# Altium integrated library NEOS_CAN.IntLib: 13 symbols
Pins are listed as number, name and electrical type; pins without a type are passive.

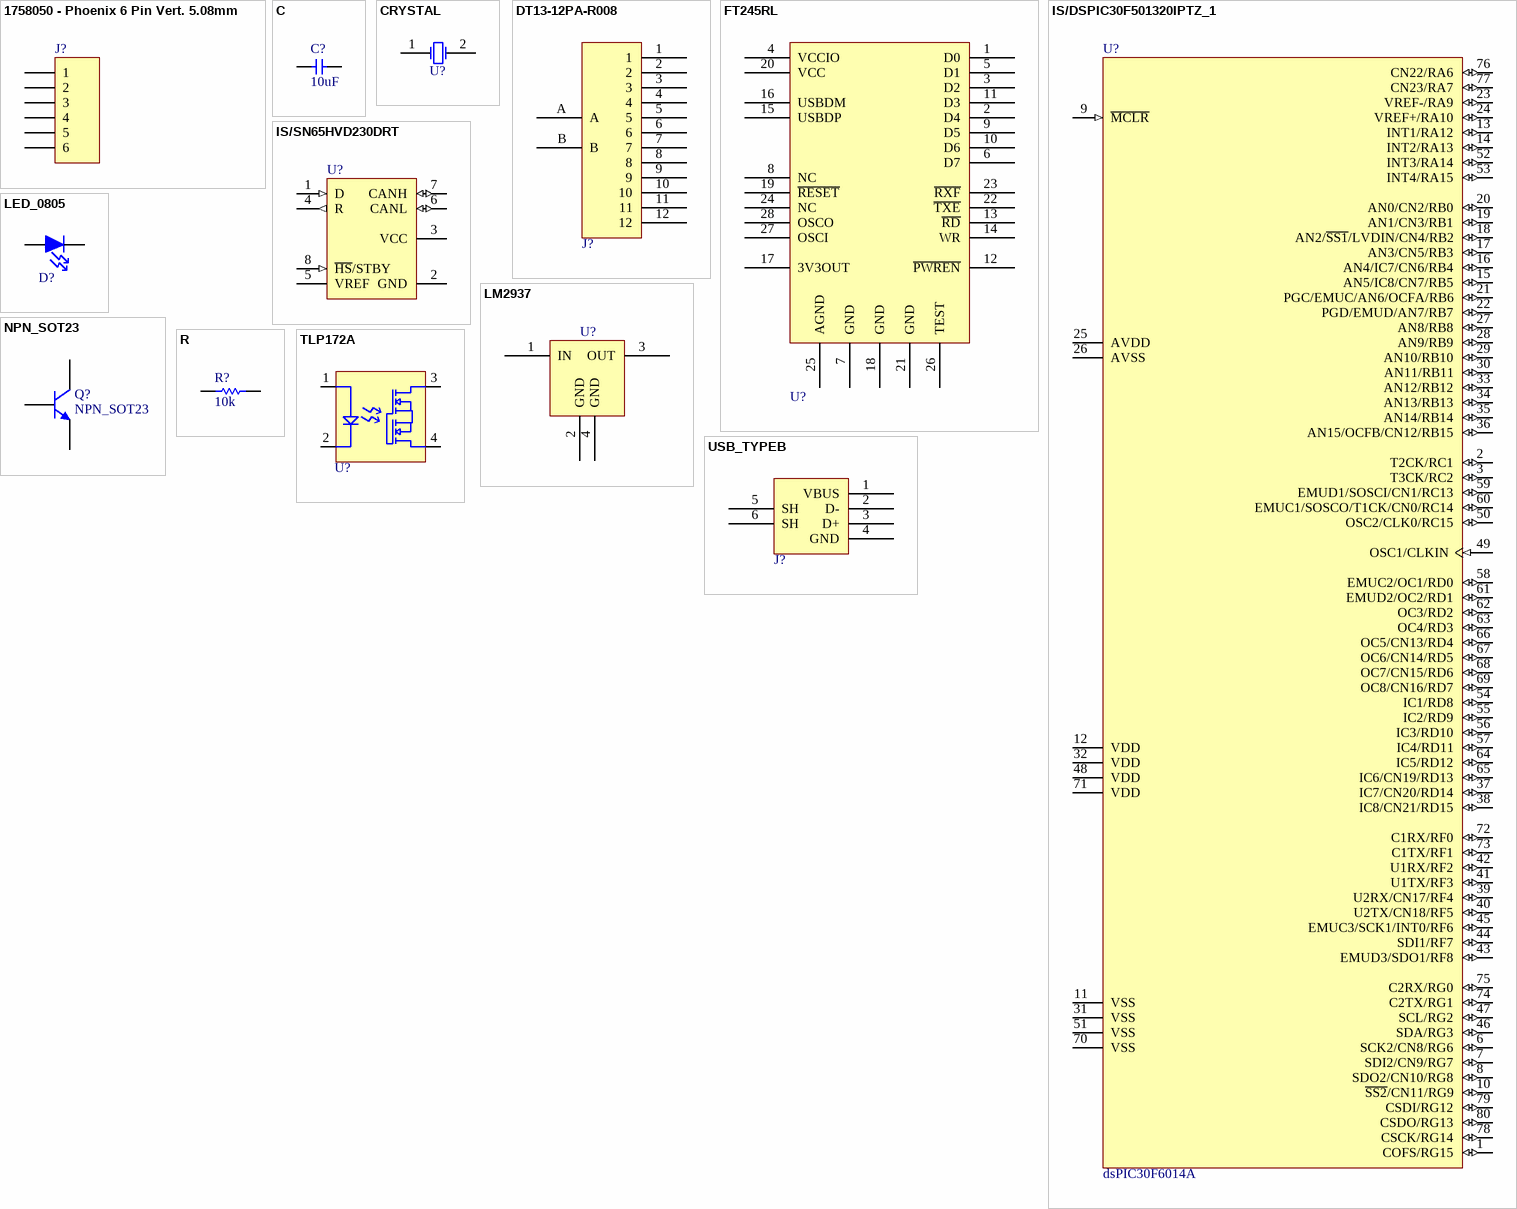
[diagram p0: symbols 1758050 - Phoenix 6 Pin Vert. 5.08mm to USB_TYPEB]

## 1758050 - Phoenix 6 Pin Vert. 5.08mm
designator J?, comment CONN HEADER VERT 6POS 5.08MM  (value not drawn)
Manufacturer: Phoenix Contact; Manufacturer Part Number: 1758050; Source Part Number: 277-1132-ND; Source: Digikey; ROHS Certificate: *; Value: CONN HEADER VERT 6POS 5.08MM
signal-integrity model Connector
footprint JCPM5086VE0Z (ASI term strip header 6P 5.08mm Vert)
pins: 1, 2, 3, 4, 5, 6

## C
designator C?  value 10uF  (hidden comment: C)
Generic C; Manufacturer: Murata Electronics North America; Source: DIGIKEY; ROHS Certificate: ROHS-MURATA-CHIP-CAPS.pdf
footprint 0603 (0603 Generic)
footprint 0805 (0805 Generic)
footprint 1206 (1206 Generic)
pins: 1, 2

## CRYSTAL
designator U?  (value not drawn)
Manufacturer: n/a; Manufacturer Part Number: n/a; Source: Digikey; Source Part Number: n/a; ROHS Certificate: n/a; Value: n/a
footprint HCM49 (Surface Mount HCM49 Crystal)
pins: 1 OSC1, 2 OSC2

## DT13-12PA-R008
designator J?  (value not drawn)
DTM13-12PA-R008; Manufacturer: Duetsch IPD; Enclosure Part Number: EEC-325X4A; Enclosure Part Number (Amber): EEC-325X4B-E016; Manufacturer Part Number: DTM13-12PA-R008; Source: Ladd Industries; Source Part Number: DTM13-12PA-R008; Value: DTM13-12PA-R008
footprint DTM13-12PA-R008 (Connector and PCB Dimensions 12 PIN DTM Assembly for EEC-325X4 enclosure)
3D model dtm13-12p (PCB3D Model)
pins: 1, 2, 3, 4, 5, 6, 7, 8, 9, 10, 11, 12, A, B

## FT245RL
designator U?  (value not drawn)
USB Interface ICs USB TO PARALLEL FIFO 28 PIN SSOP; Manufacturer: FTDI; Source Part Number: 895-FT245RL; Manufacturer Part Number: FT245RL; Source: Mouser; ROHS Certificate: ROHS-FTDI.pdf; Value: FT245RL
footprint SOP65P780X200-28L (SOP, 28-Leads, Body 10.2x5.3mm (max), Pitch 0.65mm, IPC High Density)
pins: 1 D0, 2 D4, 3 D2, 4 VCCIO, 5 D1, 6 D7, 7 GND, 8 NC, 9 D5, 10 D6, 11 D3, 12 ~{PWREN}, 13 ~{RD}, 14 WR, 15 USBDP, 16 USBDM, 17 3V3OUT, 18 GND, 19 ~{RESET}, 20 VCC, 21 GND, 22 ~{TXE}, 23 ~{RXF}, 24 NC, 25 AGND, 26 TEST, 27 OSCI, 28 OSCO

## IS/DSPIC30F501320IPTZ_1
designator U?, comment dsPIC30F6014A
Microchip dsPIC30F5013 80-TQFP; Published: 11-Oct-2004; Publisher: Altium Limited; ComponentLink1Description: Manufacturer Link; ComponentLink1URL: http://www.microchip.com/index.asp; ComponentLink3Description: Packaging Specification
footprint TQFP-80 (QFP, Plastic, Thin; 80 Leads; Body 12 x 12 mm; Pitch 0.5 mm; Lead Form 1.0/0.1 mm)
pins: 1 COFS/RG15 (io), 2 T2CK/RC1 (io), 3 T3CK/RC2 (io), 6 SCK2/CN8/RG6 (io), 7 SDI2/CN9/RG7 (io), 8 SDO2/CN10/RG8 (io), 9 ~{MCLR} (in), 10 ~{SS2}/CN11/RG9 (io), 11 VSS (power), 12 VDD (power), 13 INT1/RA12 (io), 14 INT2/RA13 (io), 15 AN5/IC8/CN7/RB5 (io), 16 AN4/IC7/CN6/RB4 (io), 17 AN3/CN5/RB3 (io), 18 AN2/~{SS1}/LVDIN/CN4/RB2 (io), 19 AN1/CN3/RB1 (io), 20 AN0/CN2/RB0 (io), 21 PGC/EMUC/AN6/OCFA/RB6 (io), 22 PGD/EMUD/AN7/RB7 (io), 23 VREF-/RA9 (io), 24 VREF+/RA10 (io), 25 AVDD (power), 26 AVSS (power), 27 AN8/RB8 (io), 28 AN9/RB9 (io), 29 AN10/RB10 (io), 30 AN11/RB11 (io), 31 VSS (power), 32 VDD (power), 33 AN12/RB12 (io), 34 AN13/RB13 (io), 35 AN14/RB14 (io), 36 AN15/OCFB/CN12/RB15 (io), 37 IC7/CN20/RD14 (io), 38 IC8/CN21/RD15 (io), 39 U2RX/CN17/RF4 (io), 40 U2TX/CN18/RF5 (io), 41 U1TX/RF3 (io), 42 U1RX/RF2 (io), 43 EMUD3/SDO1/RF8 (io), 44 SDI1/RF7 (io), 45 EMUC3/SCK1/INT0/RF6 (io), 46 SDA/RG3 (io), 47 SCL/RG2 (io), 48 VDD (power), 49 OSC1/CLKIN (in), 50 OSC2/CLK0/RC15 (io), 51 VSS (power), 52 INT3/RA14 (io), 53 INT4/RA15 (io), 54 IC1/RD8 (io), 55 IC2/RD9 (io), 56 IC3/RD10 (io), 57 IC4/RD11 (io), 58 EMUC2/OC1/RD0 (io), 59 EMUD1/SOSCI/CN1/RC13 (io), 60 EMUC1/SOSCO/T1CK/CN0/RC14 (io), 61 EMUD2/OC2/RD1 (io), 62 OC3/RD2 (io), 63 OC4/RD3 (io), 64 IC5/RD12 (io), 65 IC6/CN19/RD13 (io), 66 OC5/CN13/RD4 (io), 67 OC6/CN14/RD5 (io), 68 OC7/CN15/RD6 (io), 69 OC8/CN16/RD7 (io), 70 VSS (power), 71 VDD (power), 72 C1RX/RF0 (io), 73 C1TX/RF1 (io), 74 C2TX/RG1 (io), 75 C2RX/RG0 (io), 76 CN22/RA6 (io), 77 CN23/RA7 (io), 78 CSCK/RG14 (io), 79 CSDI/RG12 (io), 80 CSDO/RG13 (io)

## IS/SN65HVD230DRT
designator U?
CAN Transceiver 3.3V w/standby; Published: 15-May-2002; LatestRevisionDate: 04-Mar-2005; LatestRevisionNote: Stylized 3D Model Added.; DatasheetDocument: Sep-1989; PackageDocument: Jan-1998; PackageReference: D008; Publisher: Altium Limited; ComponentLink1Description: Manufacturer Link; ComponentLink1URL: http://www.ti.com/; ComponentLink2Description: Datasheet
footprint SOIC 8 (Small Outline; 8 Leads; Body Width 3.9 mm; Pitch 1.27 mm)
pins: 1 D (in), 2 GND (power), 3 VCC (power), 4 R (out), 5 VREF, 6 CANL (io), 7 CANH (io), 8 ~{HS}/STBY (in)

## LED_0805
designator D?  (value not drawn)
DT13-2P
footprint LED_0805
pins: A, C

## LM2937
designator U?  (value not drawn)
IC REG LDO 500MA 3.3V SOT-223; Manufacturer: National Instruments; Manufacturer Part Number: LM2937IMP-3.3/NOPB; Source Part Number: LM2937IMP-3.3CT-ND; Source: Digikey; Value: IC REG LDO 500MA 3.3V SOT-223; ROHS Certificate: *
footprint SOT223 (SOT223, 4-Leads, Body 6.7x7.3mm (max), Pitch 2.30mm, IPC High Density)
pins: 1 IN, 2 GND, 3 OUT, 4 GND

## NPN_SOT23
designator Q?
footprint SOT95P245X145-3L (SOT23, 3-Leads, Body 3.1x2.6mm (max), Pitch 0.95mm, IPC High Density)
pins: 1 B, 2 E, 3 C

## R
designator R?  value 10k  (hidden comment: R)
Generic R; Manufacturer: Panasonic - ECG; Manufacturer Part Number: RC0805FR-071KL; Source Part Number: 311-1.00KCRCT-ND; Source: Digikey; ROHS Certificate: ROHS-PANASONIC.pdf
footprint 0603 (0603 Generic)
footprint 0805 (0805 Generic)
pins: 1, 2

## TLP172A
designator U?  (value not drawn)
PHOTOCOUPLER PHOTORELAY 4-SOP; Manufacturer: Toshiba; Manufacturer Part Number: TLP172A(F); Source Part Number: TLP172AF-ND; Value: TLP172AF-ND; Source: Digikey
footprint PS7241
pins: 1, 2, 3, 4

## USB_TYPEB
designator J?, comment CONN RCPT USB TYPE B R/A PCB  (value not drawn)
Manufacturer: FCI; Manufacturer Part Number: 61729-0010BLF; Source Part Number: 609-1039-ND; Source: Digikey; ROHS Certificate: ROHS-FCI_61729-0010BLF; Value: CONN RCPT USB TYPE B R/A PCB
footprint 1-1470156 (Connector; USB1.1, Type B, Thru-Hole; 4 Position; Right Angle)
pins: 1 VBUS, 2 D-, 3 D+, 4 GND, 5 SH, 6 SH